# Altium integrated library Connectors.IntLib: 28 symbols
Pins are listed as number, name and electrical type; pins without a type are passive.

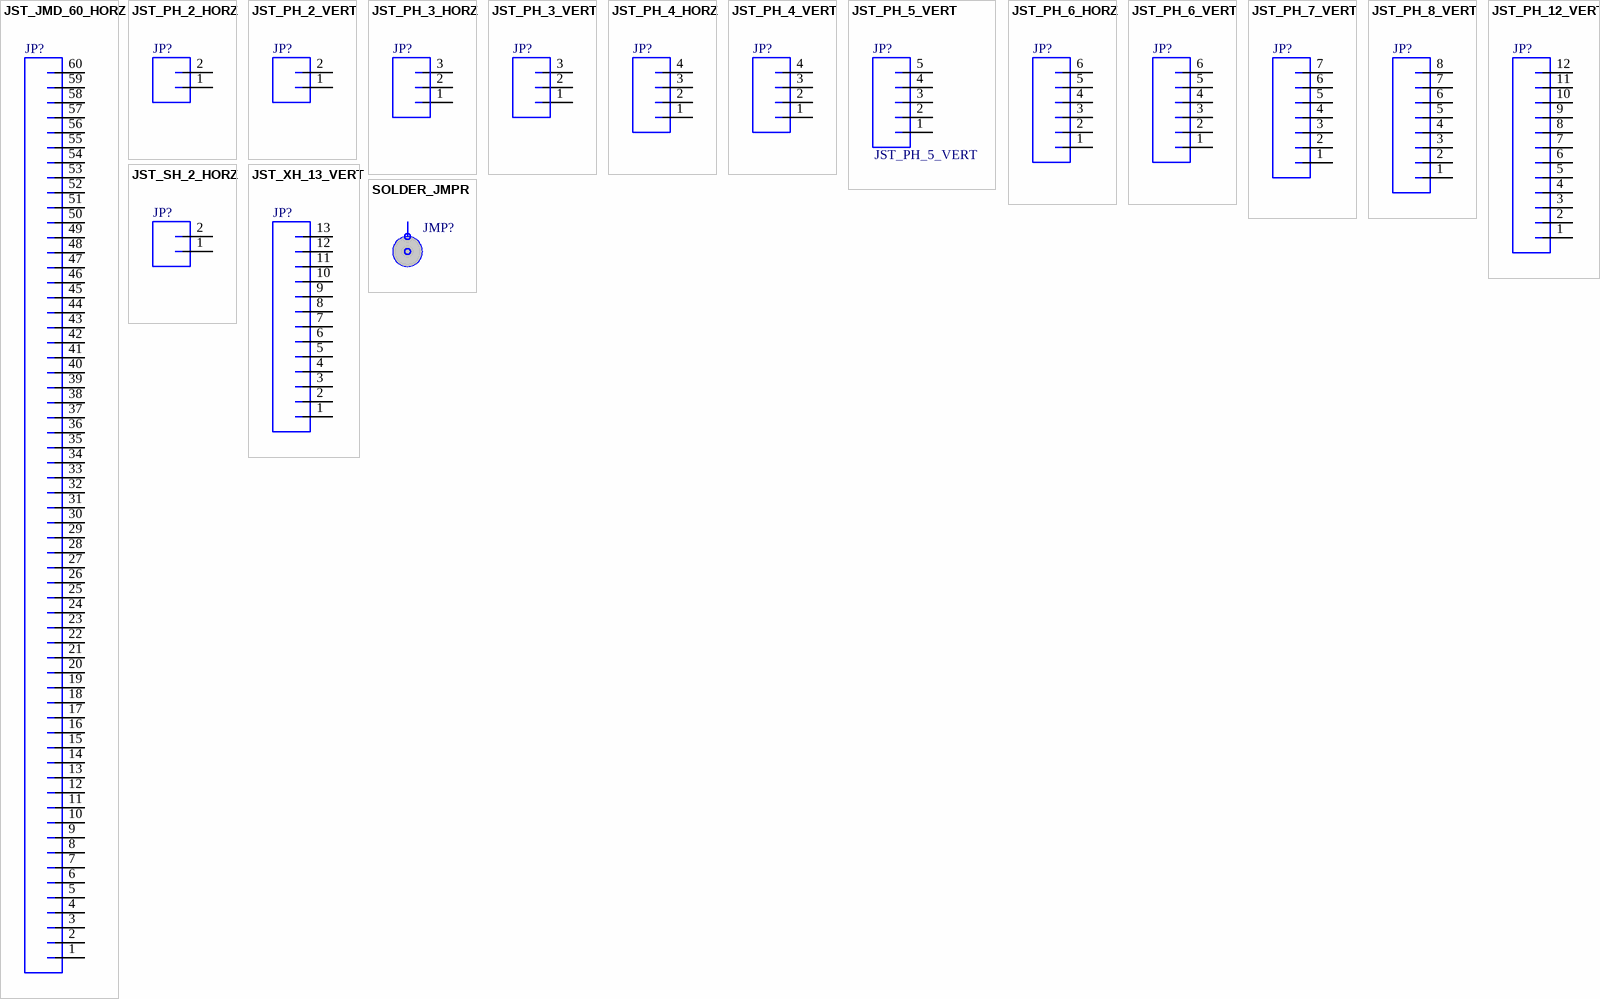
[diagram p0: symbols JST_JMD_60_HORZ to SOLDER_JMPR]

## JST_JMD_60_HORZ
designator JP?  (value not drawn)
Manufacturer: JST Sales America, Inc.; PartNumber: 60PS-JMDSS-G-1-TF; PackageReference: JMD-60; Mounting Technology: Surface Mount
footprint JST-JMD-60-SMD-HORZ
pins: 1, 2, 3, 4, 5, 6, 7, 8, 9, 10, 11, 12, 13, 14, 15, 16, 17, 18, 19, 20, 21, 22, 23, 24, 25, 26, 27, 28, 29, 30, 31, 32, 33, 34, 35, 36, 37, 38, 39, 40, 41, 42, 43, 44, 45, 46, 47, 48, 49, 50, 51, 52, 53, 54, 55, 56, 57, 58, 59, 60

## JST_PH_2_HORZ
designator JP?
Manufacturer: JST Sales America Inc.; PartNumber: B2B-PH-K-S(LF)(SN); Mounting Technology: Through Hole; PackageReference: JST-PH
footprint JST-PH-2-PTH-HORZ
pins: 1, 2

## JST_PH_2_VERT
designator JP?
Manufacturer: JST Sales America Inc.; PartNumber: B2B-PH-K-S(LF)(SN); Mounting Technology: Through Hole; PackageReference: JST-PH
footprint JST-PH-2-PTH-VERT
pins: 1, 2

## JST_PH_3_HORZ
designator JP?
Manufacturer: JST Sales America Inc.; PartNumber: B3B-PH-K-S(LF)(SN); Mounting Technology: Through Hole; PackageReference: JST-PH
footprint JST-PH-3-PTH-HORZ
pins: 1, 2, 3

## JST_PH_3_VERT
designator JP?
Manufacturer: JST Sales America Inc.; PartNumber: B3B-PH-K-S(LF)(SN); Mounting Technology: Through Hole; PackageReference: JST-PH
footprint JST-PH-3-PTH-VERT
pins: 1, 2, 3

## JST_PH_4_HORZ
designator JP?
PartNumber: S4B-PH-K-S(LF)(SN); Manufacturer: JST Sales America Inc.; PackageReference: JST-PH; Mounting Technology: Through Hole
footprint JST-PH-4-PTH-HORZ
pins: 1, 2, 3, 4

## JST_PH_4_VERT
designator JP?
PartNumber: B4B-PH-K-S(LF)(SN); Manufacturer: JST Sales America Inc.; PackageReference: JST-PH; Mounting Technology: Through Hole
footprint JST-PH-4-PTH-VERT
pins: 1, 2, 3, 4

## JST_PH_5_VERT
designator JP?
Manufacturer: JST Sales America, Inc.; PartNumber: B5B-PH-K-S(LF)(SN); PackageReference: JST-PH; Mounting Technology: Through Hole
footprint JST-PH-5-PTH-VERT
pins: 1, 2, 3, 4, 5

## JST_PH_6_HORZ
designator JP?
PartNumber: S6B-PH-K-S(LF)(SN); Manufacturer: JST Sales America Inc.; PackageReference: JST-PH; Mounting Technology: Through Hole
footprint JST-PH-6-PTH-HORZ
pins: 1, 2, 3, 4, 5, 6

## JST_PH_6_VERT
designator JP?
PartNumber: B6B-PH-K-S(LF)(SN); Manufacturer: JST Sales America Inc.; PackageReference: JST-PH; Mounting Technology: Through Hole
footprint JST-PH-6-PTH-VERT
pins: 1, 2, 3, 4, 5, 6

## JST_PH_7_VERT
designator JP?
PartNumber: B7B-PH-K-S(LF)(SN); Manufacturer: JST Sales America Inc.; Mounting Technology: Through Hole; PackageReference: JST-PH
footprint JST-PH-7-PTH-VERT
pins: 1, 2, 3, 4, 5, 6, 7

## JST_PH_8_VERT
designator JP?
Manufacturer: JST Sales America Inc.; PartNumber: B8B-PH-K-S(LF)(SN); Mounting Technology: Through Hole; PackageReference: JST-PH
footprint JST-PH-8-PTH-VERT
pins: 1, 2, 3, 4, 5, 6, 7, 8

## JST_PH_12_VERT
designator JP?
Manufacturer: JST Sales America Inc.; PartNumber: B12B-PH-K-S(LF)(SN); Mounting Technology: Through Hole; PackageReference: JST-PH
footprint JST-PH-12-PTH-VERT
pins: 1, 2, 3, 4, 5, 6, 7, 8, 9, 10, 11, 12

## JST_SH_2_HORZ
designator JP?
Manufacturer: JST Sales America, Inc.; PartNumber: SM02B-SRSS-TB; Mounting Technology: Surface Mount; PackageReference: JST-SH
footprint JST-SH-2-SMD-HORZ
pins: 1, 2

## JST_XH_13_VERT
designator JP?
Manufacturer: JST Sales America, Inc.; PartNumber: B13B-XH-A(LF)(SN); Mounting Technology: Through Hole; PackageReference: JST-XH
footprint JST-XH-13-PTH-VERT
pins: 1, 2, 3, 4, 5, 6, 7, 8, 9, 10, 11, 12, 13

## SOLDER_JMPR
designator JMP?, comment Solder Jumper  (value not drawn)
footprint SOLDER-JUMPER
pins: 1, 2


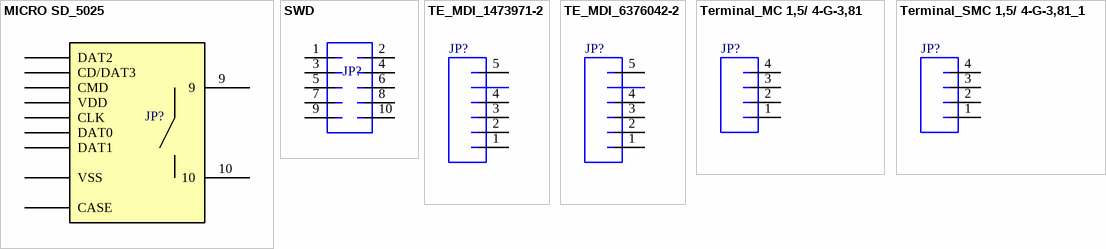
[diagram p1: symbols MICRO SD_5025 to Terminal_SMC 1,5/ 4-G-3,81_1]

## MICRO SD_5025
designator JP?, comment MICRO SD TOP MOUNT  (value not drawn)
MICRO SD Slot / TOP MOUNT / FRONT; Manufacturer: Molex; PartNumber: 5025700893; Mounting Technology: SMD; PackageReference: Header-1.27mm-2x5
footprint MICRO SD_502570 (TOP MOUNT / FRONT)
pins: 9, 10, CASE, CD/DAT3, CLK, CMD, DAT0, DAT1, DAT2, VDD, VSS

## SWD
designator JP?, comment 1.27mm SWD Connector  (value not drawn)
Manufacturer: Samtec; PartNumber: FTSH-105-01-F-DV; Mounting Technology: SMD; PackageReference: Header-1.27mm-2x5
footprint SWD-SMD
pins: 1, 2, 3, 4, 5, 6, 7, 8, 9, 10

## TE_MDI_1473971-2
designator JP?
BLADE CONNECTOR, 5 PIN, FEMALE, HORIZ; PartNumber: 1473971-2; Manufacturer: TE Connectivity; Mounting Technology: Through Hole
footprint TE_1473971-2
pins: 1, 2, 3, 4, 5

## TE_MDI_6376042-2
designator JP?
BLADE CONNECTOR, 5 PIN, MALE, HORIZ; PartNumber: 6376042-2; Manufacturer: TE Connectivity; Mounting Technology: Through Hole
footprint TE_6376042-2
pins: 1, 2, 3, 4, 5

## Terminal_MC 1,5/ 4-G-3,81
designator JP?
PartNumber: 1803293; Manufacturer: Phoenix Contact; MatePart: 1803594; PackageReference: MC; Mounting Technology: Through Hole
footprint Terminal-3.81-HORZ
pins: 1, 2, 3, 4

## Terminal_SMC 1,5/ 4-G-3,81_1
designator JP?
PartNumber: 1827295; Manufacturer: Phoenix Contact; MatePart: 1803594; PackageReference: SMC; Mounting Technology: Through Hole
footprint Terminal-3.81-45'
pins: 1, 2, 3, 4


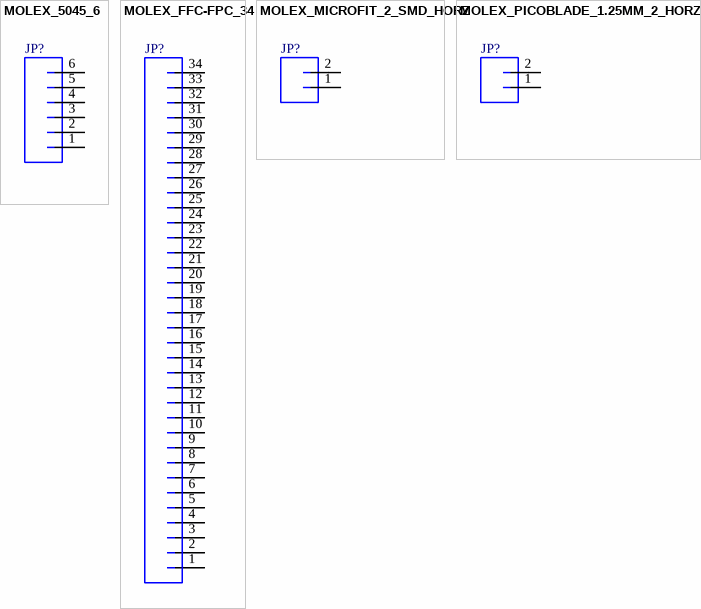
[diagram p2: symbols MOLEX_5045_6 to MOLEX_PICOBLADE_1.25MM_2_HORZ_SMD]

## MOLEX_5045_6
designator JP?
PartNumber: B6B-PH-K-S(LF)(SN); Manufacturer: JST Sales America Inc.; PackageReference: JST-PH; Mounting Technology: Through Hole
footprint MOLEX_5045_6
pins: 1, 2, 3, 4, 5, 6

## MOLEX_FFC-FPC_34
designator JP?  (value not drawn)
Manufacturer: Molex; PartNumber: 51296-3494; PackageReference: FFC-FPC-0.5; Mounting Technology: Surface Mount
footprint MOLEX-FFC-FPC-0.5MM-34
pins: 1, 2, 3, 4, 5, 6, 7, 8, 9, 10, 11, 12, 13, 14, 15, 16, 17, 18, 19, 20, 21, 22, 23, 24, 25, 26, 27, 28, 29, 30, 31, 32, 33, 34

## MOLEX_MICROFIT_2_SMD_HORZ
designator JP?
Manufacturer: Molex; PartNumber: 43650-0212; Mounting Technology: Surface Mount; PackageReference: Microfit-3.0mm
footprint MOLEX-MICROFIT-2-SMD-HORZ (Micro-Fit 3.0™ Right Angle Header, 3.00mm Pitch, Single Row, 2 Circuits, with Solder Tab, Tin, Glow Wire Capable, Black)
pins: 1, 2

## MOLEX_PICOBLADE_1.25MM_2_HORZ_SMD
designator JP?
Manufacturer: Molex; PartNumber: 53261-0271; Mounting Technology: Surface Mount; PackageReference: PicoBlade-1.25mm
footprint MOLEX-PICOBLADE-1.25MM-2-HORZ-SMD
pins: 1, 2


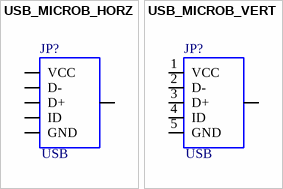
[diagram p3: symbols USB_MICROB_HORZ to USB_MICROB_VERT]

## USB_MICROB_HORZ
designator JP?, comment USB
PartNumber: 10118192-0001LF; Manufacturer: Amphenol FCI; Mounting Technology: Surface Mount; PackageReference: USB - Micro B
footprint USB-MICROB_HORZ; pin to pad MT1>MT1+P$1+P$2+MT2
pins: D+, D-, GND, ID, MT1 SHIELD, VBUS VCC

## USB_MICROB_VERT
designator JP?, comment USB
PartNumber: 614105150721; Manufacturer: Wurth Electronics; Mounting Technology: Through Hole; PackageReference: USB - Micro B
footprint USB_MICROB_VERT (Micro USB 2.0 Type B Vertical 5 Contacts 614105150721)
pins: 1 VCC, 2 D-, 3 D+, 4 ID, 5 GND, 6 SHIELD